# EAGLE library part BQ25570 (library integrated_circuits)
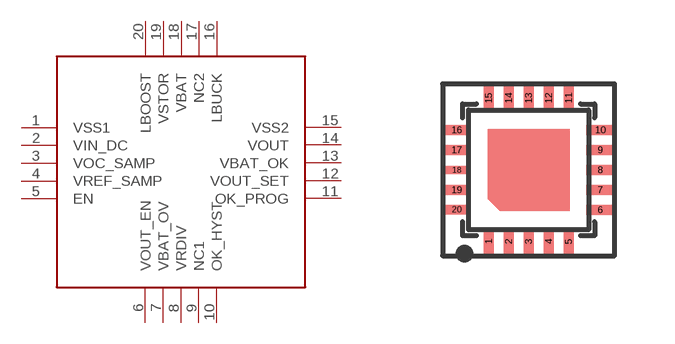
[diagram p4: symbol with the pads of BQ25570; footprint BQ25570]

Designator prefix -

## BQ25570  [BQ25570]
1  VSS1
2  VIN_DC
3  VOC_SAMP
4  VREF_SAMP
5  EN
6  VOUT_EN
7  VBAT_OV
8  VRDIV
9  NC1
10  OK_HYST
11  OK_PROG
12  VOUT_SET
13  VBAT_OK
14  VOUT
15  VSS2
16  LBUCK
17  NC2
18  VBAT
19  VSTOR
20  LBOOST

## Footprint BQ25570 (pad centres in mm)
PLASTIC QUAD FLATPACK NO-LEAD S-PVQFN-N20
smd 0.25 x 0.71: 1 -1,-1.795; 2 -0.5,-1.795; 3 0,-1.795; 4 0.5,-1.795; 5 1,-1.795; 11 1,1.795; 12 0.5,1.795; 13 0,1.795; 14 -0.5,1.795; 15 -1,1.795
smd 0.71 x 0.25: 6 1.795,-1; 7 1.795,-0.5; 8 1.795,0; 9 1.795,0.5; 10 1.795,1; 16 -1.795,1; 17 -1.795,0.5; 19 -1.795,-0.5
smd 0.71 x 0.2: 18 -1.795,0
smd 0.71 x 0.23: 20 -1.795,-1